# Altium schematic symbol library Schlib1.SchLib: 7 symbols
Pins are listed as number, name and electrical type; pins without a type are passive.

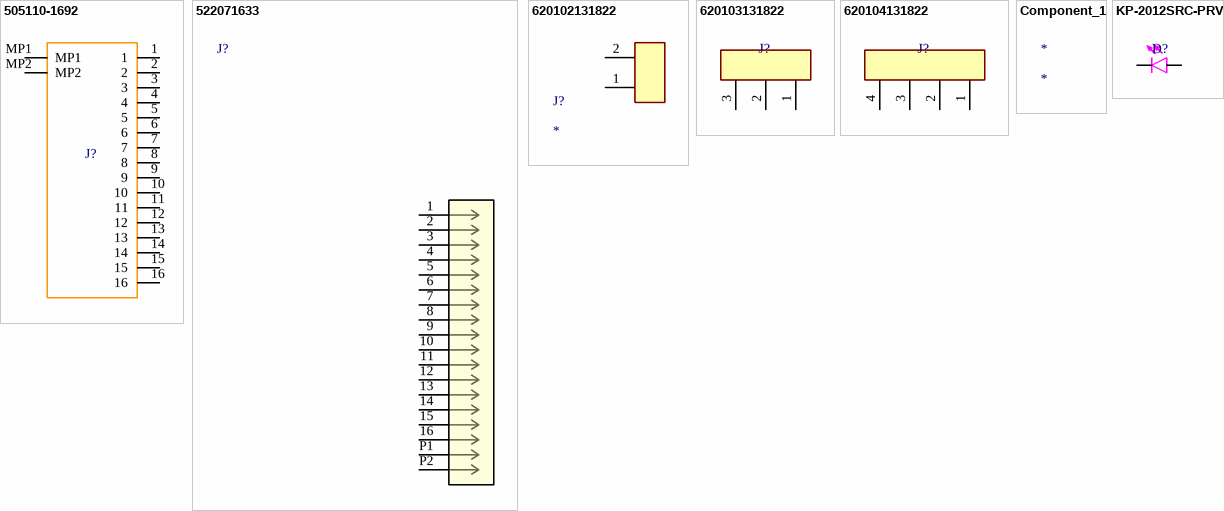
[diagram p0: symbols 505110-1692 to KP-2012SRC-PRV]

## 505110-1692
designator J?  (value not drawn)
Conn FFC/FPC Connector SKT 16 POS 0.5mm Solder RA SMD Easy-On™ T/R; Manufacturer: Molex; Manufacturer Part Number: 505110-1692; Actuator Material: Nylon,Glass,Polyamide; Number of Positions: 16; Voltage Rating: 50V; Current Rating: 500mA; Gender: Receptacle; Pitch: 0.02inch; Supplier 1: Rs; RoHS: Yes; Category: FFC / FPC; Stock 1: 1; Mount: Surface Mount; Contact Material: Bronze; Contact Plating: Gold; Housing Material: Polymer; Min Operating Temperature: -40°C; Max Operating Temperature: 105°C; Packaging: Cut Tape; Termination: Solder; Number of Rows: 1; Series: Easy-On™ 505110; Flammability Rating: UL94 V-0; ComponentLink1URL: https://media.digikey.com/pdf/Data%20Sheets/Molex%20PDFs/FFC-FPC_Connectors.pdf?src-supplier=Digi-Key; ComponentLink1Description: https://media.digikey.com/pdf/Data%20Sheets/Molex%20PDFs/FFC-FPC_Connectors.pdf?src-supplier=Digi-Key; ComponentLink2URL: https://www.molex.com/datasheets/rohspdf/5051101692_rohs.pdf?src-supplier=Digi-Key; ComponentLink2Description: https://www.molex.com/datasheets/rohspdf/5051101692_rohs.pdf?src-supplier=Digi-Key; ComponentLink3URL: http://www.farnell.com/datasheets/2014276.pdf?src-supplier=Element14; ComponentLink3Description: http://www.farnell.com/datasheets/2014276.pdf?src-supplier=Element14; Supplier Part Number 1: 1116695P
footprint FFC Connector
pins: 1, 2, 3, 4, 5, 6, 7, 8, 9, 10, 11, 12, 13, 14, 15, 16, MP1, MP2

## 522071633
designator J?  (value not drawn)
No Description Available; Mfr_Name: Molex Connector Corporation; RefDes: RefDes; Type: Type
footprint CON_522071633_MOL
pins: 1, 2, 3, 4, 5, 6, 7, 8, 9, 10, 11, 12, 13, 14, 15, 16, P1, P2

## 620102131822
designator J?
Connector Header Surface Mount, Right Angle 2 position 0.079 _2.00mm_; MP: 620102131822; MF: Wurth Electronics; Price: None; SnapEDA_Link: https://www.snapeda.com/parts/620102131822/Wurth%20Electronics%20Inc./view-part/424042/?ref=snap; Package: None; Value: *; Availability: Unavailable
footprint 620102131822
pins: 1 2, 2 1

## 620103131822
designator J?  (value not drawn)
Connector Header Surface Mount, Right Angle 3 position 0.079 (2.00mm); MP: 620103131822; MF: Wurth Electronics; SnapEDA_Link: https://www.snapeda.com/parts/620103131822/Wurth%20Electronics%20Inc./view-part/1330579/?ref=snap; Mouser-Purchase-URL: https://snapeda.com/shop?store=Mouser&id=1330579; Price: None; Availability: Warning; Package: None; Value: *
footprint 620103131822
pins: 1 3, 2, 3 1

## 620104131822
designator J?  (value not drawn)
<b> WR-WTB 2.00mm SMT Male Horizontal Shrouded Header, 4 Pins</b>=>Code : Con_WTB_2.00_PCB_SMT_620104131822 <br><a href="http://katalog.we-online.de/media/thumbs2/eican/thb_Con_WTB_2.00_PCB_SMT_6201xx131822_pf2.jpg" title="Enlarge picture"> <img src="http://katalog.we-online.de/media/thumbs2/eican/thb_Con_WTB_2.00_PCB_SMT_6201xx131822_pf2.jpg"  width="320"></a><p> Details see: <a href="http://katalog.we-online.de/en/em/WTB_2_00_SMT_MALE_HORIZONTAL_SHROUDED_HEADER_6201XX131822">http://katalog.we-online.de/en/em/WTB_2_00_SMT_MALE_HORIZONTAL_SHROUDED_HEADER_6201XX131822</a><p> Created 2014-06-05, Karrer Zheng<br> 2014 (C) WÃ¼rth Elektronik; Package: None; Price: None; Value: *; MP: 620104131822; Availability: Unavailable
footprint 620104131822
pins: 1 4, 2 3, 3 2, 4 1

## Component_1
designator *

## KP-2012SRC-PRV
designator D?  (value not drawn)
KP-2012SRC-PRV Red LED, 640 nm 2012 (0805), Rectangle Lens SMD package; Manufacturer: Kingbright; Lens Color: Clear; Viewing Angle: 120°; Lens Style: Rectangular,Diffused,Colorless; Number of LEDs: 1; Wavelength: 640nm; Luminous Intensity: 100mcd; Forward Voltage: 1.85V; Forward Current: 20mA; Supplier 1: Farnell; Manufacturer Part Number: KP-2012SRC-PRV; RoHS: Yes; Category: LEDs; Pricing 1: 5=0,12900, 50=0,10200, 100=0,09830, 500=0,08370, 1000=0,07290 (EUR); Mount: Surface Mount; Case/Package: 2012; Number of Pins: 2; Color: Red; Min Operating Temperature: -40°C; Max Operating Temperature: 85°C; Packaging: Cut Tape; Dominant Wavelength: 640nm; Radiation Hardening: No; Reach SVHC Compliant: Yes; RoHS Compliant: Yes; ComponentLink1URL: https://datasheet.ciiva.com/14176/kp2012src-prv-eng-tds-14176962.pdf?src-supplier=Distrelec; ComponentLink1Description: https://datasheet.ciiva.com/14176/kp2012src-prv-eng-tds-14176962.pdf?src-supplier=Distrelec; ComponentLink2URL: https://datasheet.ciiva.com/11773/0900766b8032fa8d-11773524.pdf?src-supplier=RSComponents; ComponentLink2Description: https://datasheet.ciiva.com/11773/0900766b8032fa8d-11773524.pdf?src-supplier=RSComponents; ComponentLink3URL: https://datasheet.ciiva.com/14634/0900766b8032fa8d-14634746.pdf?src-supplier=Allied+Electronics; ComponentLink3Description: https://datasheet.ciiva.com/14634/0900766b8032fa8d-14634746.pdf?src-supplier=Allied+Electronics; ComponentLink4URL: https://datasheet.ciiva.com/29281/180105-da-01-en-led-0805-typ-kp-2012src-prv-29281248.pdf?src-supplier=Conrad; ComponentLink4Description: https://datasheet.ciiva.com/29281/180105-da-01-en-led-0805-typ-kp-2012src-prv-29281248.pdf?src-supplier=Conrad; Supplier Part Number 1: 1318244
footprint 0805 LED
pins: A, K C